# EAGLE library part MCP41HV51 (library ck)
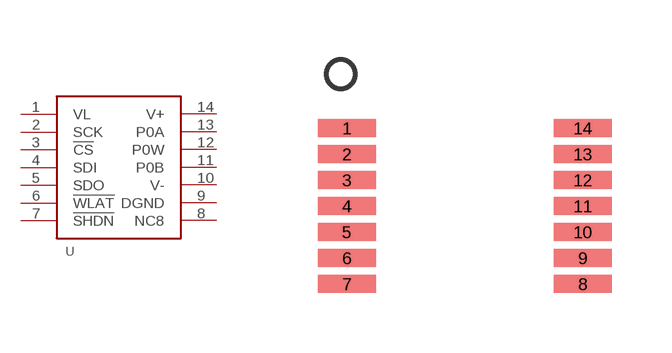
[diagram p25: symbol with the pads of 14-TSSOP; footprint 14-TSSOP]

Designator prefix U

## MCP41HV51  [14-TSSOP]
1  VL
2  SCK
3  !CS
4  SDI
5  SDO
6  !WLAT
7  !SHDN
8  NC8
9  DGND
10  V-
11  P0B
12  P0W
13  P0A
14  V+

## Footprint 14-TSSOP (pad centres in mm)
smd 1.45 x 0.45: 1 -2.95,1.95; 2 -2.95,1.3; 3 -2.95,0.65; 4 -2.95,0; 5 -2.95,-0.65; 6 -2.95,-1.3; 7 -2.95,-1.95; 8 2.95,-1.95; 9 2.95,-1.3; 10 2.95,-0.65; 11 2.95,0; 12 2.95,0.65; 13 2.95,1.3; 14 2.95,1.95